# Altium schematic symbol library THS-04-R-RAF.SchLib: 1 symbol
Pins are listed as number, name and electrical type; pins without a type are passive.

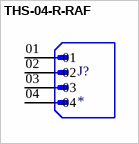
[diagram p0: symbol THS-04-R-RAF]

## THS-04-R-RAF
designator J?
MP: THS-04-R-RAF; Availability: Unavailable; Value: *; Package: None; Price: None
footprint VALCON_THS-04-R-RAF
pins: 01, 02, 03, 04